# Altium footprint library Lattice Semiconductor Footprints.PcbLib: 129 footprints (part 4 of 10)
Each footprint in its own frame and in the unit in brackets; x right, y up, seen from the top. Pads: shape width x height; smd on the part's side, far side on the other; paste and mask are expansions set on the pad; w line width, h text height; cw(c..) or ccw(c..) is an arc to the next point about the centre after c.
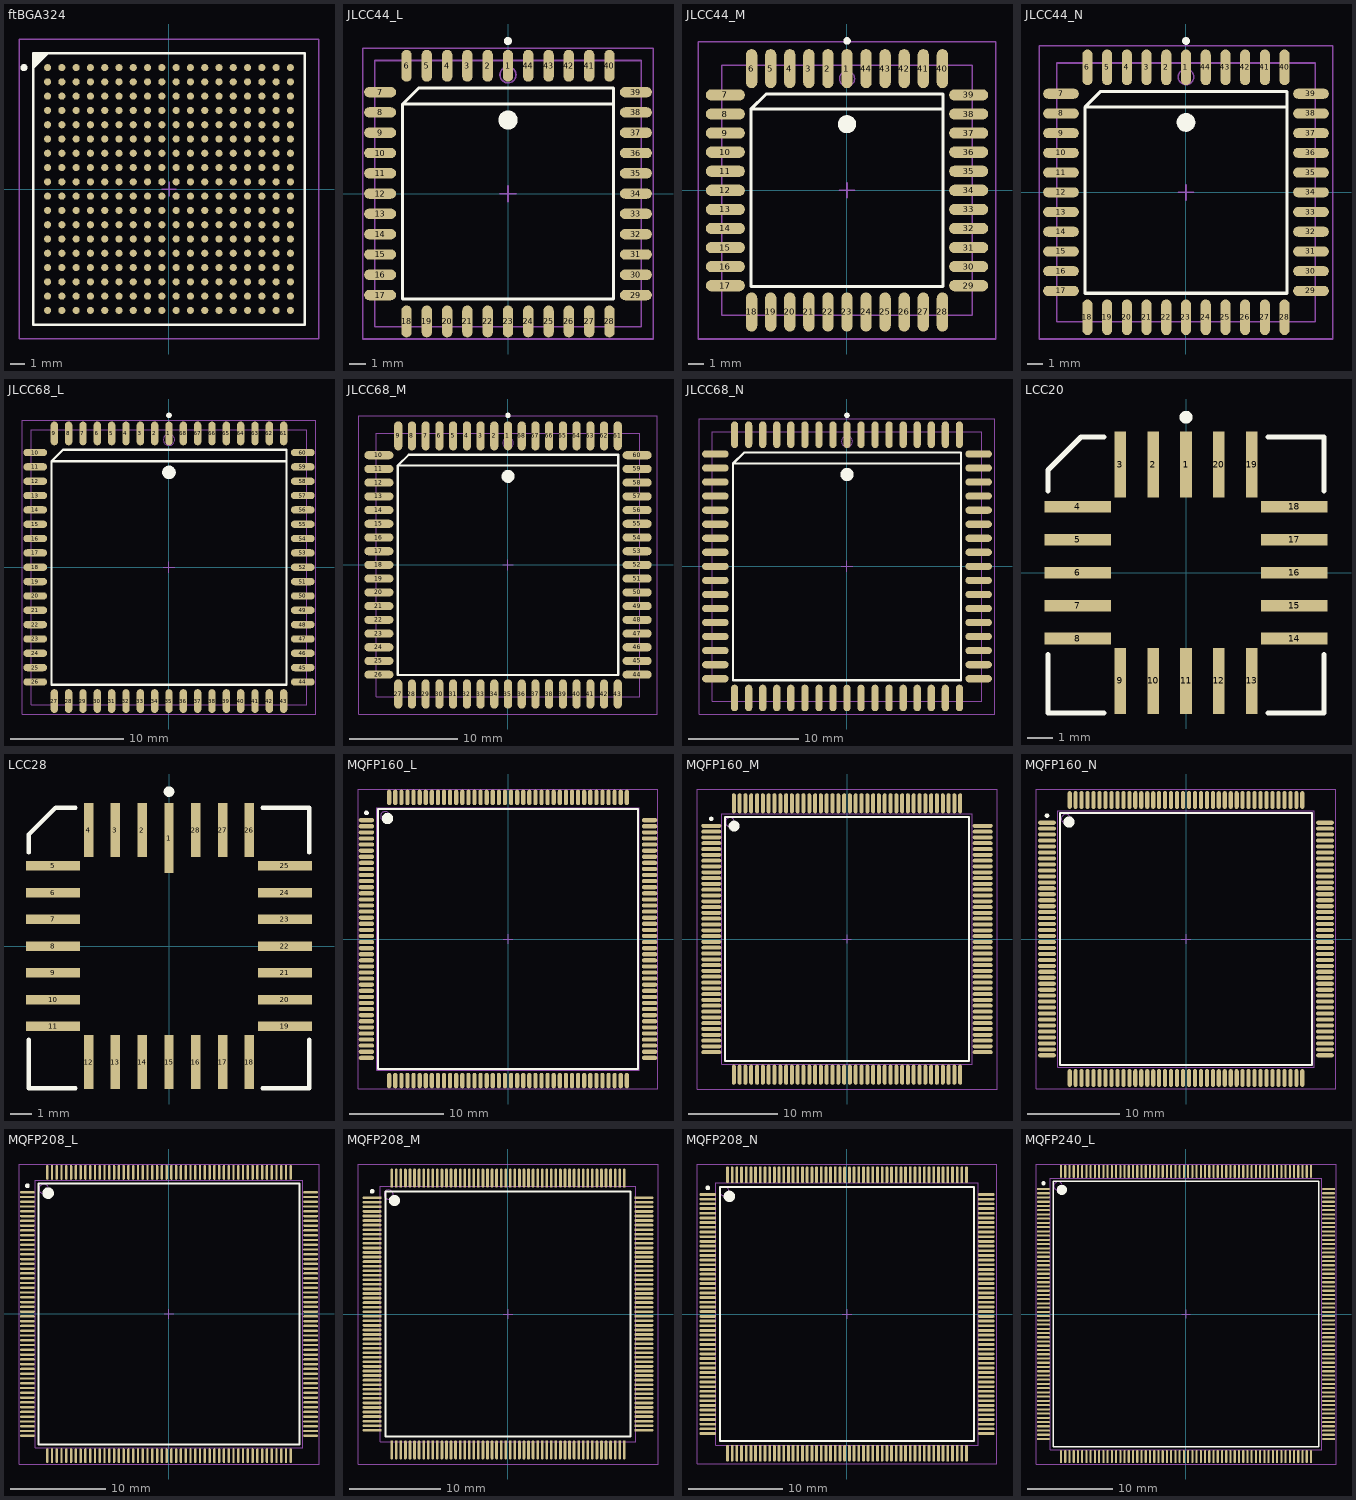
[diagram p3: the footprints below, top view; thin cyan lines are the x and y axes]

## ftBGA324 [mm] "324-Ball Fine Thin Ball Grid Array (ftBGA324)"
height 1.7
pads (324):
  round 0.5 smd: A1(-8.5,8.5) A2(-7.5,8.5) A3(-6.5,8.5) A4(-5.5,8.5) A5(-4.5,8.5) A6(-3.5,8.5) A7(-2.5,8.5) A8(-1.5,8.5) A9(-0.5,8.5) A10(0.5,8.5) A11(1.5,8.5) A12(2.5,8.5) A13(3.5,8.5) A14(4.5,8.5) A15(5.5,8.5) A16(6.5,8.5) A17(7.5,8.5) A18(8.5,8.5) B1(-8.5,7.5) B2(-7.5,7.5) B3(-6.5,7.5) B4(-5.5,7.5) B5(-4.5,7.5) B6(-3.5,7.5) B7(-2.5,7.5) B8(-1.5,7.5) B9(-0.5,7.5) B10(0.5,7.5) B11(1.5,7.5) B12(2.5,7.5) B13(3.5,7.5) B14(4.5,7.5) B15(5.5,7.5) B16(6.5,7.5) B17(7.5,7.5) B18(8.5,7.5) C1(-8.5,6.5) C2(-7.5,6.5) C3(-6.5,6.5) C4(-5.5,6.5) C5(-4.5,6.5) C6(-3.5,6.5) C7(-2.5,6.5) C8(-1.5,6.5) C9(-0.5,6.5) C10(0.5,6.5) C11(1.5,6.5) C12(2.5,6.5) C13(3.5,6.5) C14(4.5,6.5) C15(5.5,6.5) C16(6.5,6.5) C17(7.5,6.5) C18(8.5,6.5) D1(-8.5,5.5) D2(-7.5,5.5) D3(-6.5,5.5) D4(-5.5,5.5) D5(-4.5,5.5) D6(-3.5,5.5) D7(-2.5,5.5) D8(-1.5,5.5) D9(-0.5,5.5) D10(0.5,5.5) D11(1.5,5.5) D12(2.5,5.5) D13(3.5,5.5) D14(4.5,5.5) D15(5.5,5.5) D16(6.5,5.5) D17(7.5,5.5) D18(8.5,5.5) E1(-8.5,4.5) E2(-7.5,4.5) E3(-6.5,4.5) E4(-5.5,4.5) E5(-4.5,4.5) E6(-3.5,4.5) E7(-2.5,4.5) E8(-1.5,4.5) E9(-0.5,4.5) E10(0.5,4.5) E11(1.5,4.5) E12(2.5,4.5) E13(3.5,4.5) E14(4.5,4.5) E15(5.5,4.5) E16(6.5,4.5) E17(7.5,4.5) E18(8.5,4.5) F1(-8.5,3.5) F2(-7.5,3.5) F3(-6.5,3.5) F4(-5.5,3.5) F5(-4.5,3.5) F6(-3.5,3.5) F7(-2.5,3.5) F8(-1.5,3.5) F9(-0.5,3.5) F10(0.5,3.5) F11(1.5,3.5) F12(2.5,3.5) F13(3.5,3.5) F14(4.5,3.5) F15(5.5,3.5) F16(6.5,3.5) F17(7.5,3.5) F18(8.5,3.5) G1(-8.5,2.5) G2(-7.5,2.5) G3(-6.5,2.5) G4(-5.5,2.5) G5(-4.5,2.5) G6(-3.5,2.5) G7(-2.5,2.5) G8(-1.5,2.5) G9(-0.5,2.5) G10(0.5,2.5) G11(1.5,2.5) G12(2.5,2.5) G13(3.5,2.5) G14(4.5,2.5) G15(5.5,2.5) G16(6.5,2.5) G17(7.5,2.5) G18(8.5,2.5) H1(-8.5,1.5) H2(-7.5,1.5) H3(-6.5,1.5) H4(-5.5,1.5) H5(-4.5,1.5) H6(-3.5,1.5) H7(-2.5,1.5) H8(-1.5,1.5) H9(-0.5,1.5) H10(0.5,1.5) H11(1.5,1.5) H12(2.5,1.5) H13(3.5,1.5) H14(4.5,1.5) H15(5.5,1.5) H16(6.5,1.5) H17(7.5,1.5) H18(8.5,1.5) J1(-8.5,0.5) J2(-7.5,0.5) J3(-6.5,0.5) J4(-5.5,0.5) J5(-4.5,0.5) J6(-3.5,0.5) J7(-2.5,0.5) J8(-1.5,0.5) J9(-0.5,0.5) J10(0.5,0.5) J11(1.5,0.5) J12(2.5,0.5) J13(3.5,0.5) J14(4.5,0.5) J15(5.5,0.5) J16(6.5,0.5) J17(7.5,0.5) J18(8.5,0.5) K1(-8.5,-0.5) K2(-7.5,-0.5) K3(-6.5,-0.5) K4(-5.5,-0.5) K5(-4.5,-0.5) K6(-3.5,-0.5) K7(-2.5,-0.5) K8(-1.5,-0.5) K9(-0.5,-0.5) K10(0.5,-0.5) K11(1.5,-0.5) K12(2.5,-0.5) K13(3.5,-0.5) K14(4.5,-0.5) K15(5.5,-0.5) K16(6.5,-0.5) K17(7.5,-0.5) K18(8.5,-0.5) L1(-8.5,-1.5) L2(-7.5,-1.5) L3(-6.5,-1.5) L4(-5.5,-1.5) L5(-4.5,-1.5) L6(-3.5,-1.5) L7(-2.5,-1.5) L8(-1.5,-1.5) L9(-0.5,-1.5) L10(0.5,-1.5) L11(1.5,-1.5) L12(2.5,-1.5) L13(3.5,-1.5) L14(4.5,-1.5) L15(5.5,-1.5) L16(6.5,-1.5) L17(7.5,-1.5) L18(8.5,-1.5) M1(-8.5,-2.5) M2(-7.5,-2.5) M3(-6.5,-2.5) M4(-5.5,-2.5) M5(-4.5,-2.5) M6(-3.5,-2.5) M7(-2.5,-2.5) M8(-1.5,-2.5) M9(-0.5,-2.5) M10(0.5,-2.5) M11(1.5,-2.5) M12(2.5,-2.5) M13(3.5,-2.5) M14(4.5,-2.5) M15(5.5,-2.5) M16(6.5,-2.5) M17(7.5,-2.5) M18(8.5,-2.5) N1(-8.5,-3.5) N2(-7.5,-3.5) N3(-6.5,-3.5) N4(-5.5,-3.5) N5(-4.5,-3.5) N6(-3.5,-3.5) N7(-2.5,-3.5) N8(-1.5,-3.5) N9(-0.5,-3.5) N10(0.5,-3.5) N11(1.5,-3.5) N12(2.5,-3.5) N13(3.5,-3.5) N14(4.5,-3.5) N15(5.5,-3.5) N16(6.5,-3.5) N17(7.5,-3.5) N18(8.5,-3.5) P1(-8.5,-4.5) P2(-7.5,-4.5) P3(-6.5,-4.5) P4(-5.5,-4.5) P5(-4.5,-4.5) P6(-3.5,-4.5) P7(-2.5,-4.5) P8(-1.5,-4.5) P9(-0.5,-4.5) P10(0.5,-4.5) P11(1.5,-4.5) P12(2.5,-4.5) P13(3.5,-4.5) P14(4.5,-4.5) P15(5.5,-4.5) P16(6.5,-4.5) P17(7.5,-4.5) P18(8.5,-4.5) R1(-8.5,-5.5) R2(-7.5,-5.5) R3(-6.5,-5.5) R4(-5.5,-5.5) R5(-4.5,-5.5) R6(-3.5,-5.5) R7(-2.5,-5.5) R8(-1.5,-5.5) R9(-0.5,-5.5) R10(0.5,-5.5) R11(1.5,-5.5) R12(2.5,-5.5) R13(3.5,-5.5) R14(4.5,-5.5) R15(5.5,-5.5) R16(6.5,-5.5) R17(7.5,-5.5) R18(8.5,-5.5) T1(-8.5,-6.5) T2(-7.5,-6.5) T3(-6.5,-6.5) T4(-5.5,-6.5) T5(-4.5,-6.5) T6(-3.5,-6.5) T7(-2.5,-6.5) T8(-1.5,-6.5) T9(-0.5,-6.5) T10(0.5,-6.5) T11(1.5,-6.5) T12(2.5,-6.5) T13(3.5,-6.5) T14(4.5,-6.5) T15(5.5,-6.5) T16(6.5,-6.5) T17(7.5,-6.5) T18(8.5,-6.5) U1(-8.5,-7.5) U2(-7.5,-7.5) U3(-6.5,-7.5) U4(-5.5,-7.5) U5(-4.5,-7.5) U6(-3.5,-7.5) U7(-2.5,-7.5) U8(-1.5,-7.5) U9(-0.5,-7.5) U10(0.5,-7.5) U11(1.5,-7.5) U12(2.5,-7.5) U13(3.5,-7.5) U14(4.5,-7.5) U15(5.5,-7.5) U16(6.5,-7.5) U17(7.5,-7.5) U18(8.5,-7.5) V1(-8.5,-8.5) V2(-7.5,-8.5) V3(-6.5,-8.5) V4(-5.5,-8.5) V5(-4.5,-8.5) V6(-3.5,-8.5) V7(-2.5,-8.5) V8(-1.5,-8.5) V9(-0.5,-8.5) V10(0.5,-8.5) V11(1.5,-8.5) V12(2.5,-8.5) V13(3.5,-8.5) V14(4.5,-8.5) V15(5.5,-8.5) V16(6.5,-8.5) V17(7.5,-8.5) V18(8.5,-8.5)
Top Overlay:
  circle w0.25: c-10.15,8.5 r0.125
  region: -8.5,9.5 -9.5,8.5 -9.5,9.5
  lines w0.2: -9.5,8.5 -8.5,9.5 ; -9.5,-9.5 9.5,-9.5 9.5,9.5 -9.5,9.5 -9.5,-9.5
Mechanical 13:
  lines w0.1: -9.5,-9.5 9.5,-9.5 9.5,9.5 -9.5,9.5 -9.5,-9.5
Mechanical 15:
  lines w0.1: -0.5,0 0.5,0 ; 0,-0.5 0,0.5 ; -10.5,-10.5 10.5,-10.5 10.5,10.5 -10.5,10.5 -10.5,-10.5
3D body: height 1.7, standoff 0, extent -9.5,-9.5 9.5,9.5

## JLCC44_L [mm] "44-Pin Leaded Chip Carrier 1.27 mm Pitch, IPC High Density"
height 4.83
pads (44):
  oval 0.65x2 smd: 1(0,8) 2(-1.27,8) 3(-2.54,8) 4(-3.81,8) 5(-5.08,8) 6(-6.35,8) 18(-6.35,-8) 19(-5.08,-8) 20(-3.81,-8) 21(-2.54,-8) 22(-1.27,-8) 23(0,-8) 24(1.27,-8) 25(2.54,-8) 26(3.81,-8) 27(5.08,-8) 28(6.35,-8) 40(6.35,8) 41(5.08,8) 42(3.81,8) 43(2.54,8) 44(1.27,8)
  oval 2x0.65 smd: 7(-8,6.35) 8(-8,5.08) 9(-8,3.81) 10(-8,2.54) 11(-8,1.27) 12(-8,0) 13(-8,-1.27) 14(-8,-2.54) 15(-8,-3.81) 16(-8,-5.08) 17(-8,-6.35) 29(8,-6.35) 30(8,-5.08) 31(8,-3.81) 32(8,-2.54) 33(8,-1.27) 34(8,0) 35(8,1.27) 36(8,2.54) 37(8,3.81) 38(8,5.08) 39(8,6.35)
Top Overlay:
  circle w0.25: c0,9.55 r0.125
  circle w0.6: c0,4.6 r0.3
  lines w0.2: 6.6,5.6 -6.6,5.6 ; -6.6,5.6 -5.6,6.6 6.6,6.6 6.6,-6.6 -6.6,-6.6 -6.6,5.6
Mechanical 13:
  circle w0.1: c0,7.43 r0.5
  lines w0.1: -8.33,-8.33 -8.33,8.33 8.33,8.33 8.33,-8.33 -8.33,-8.33
Mechanical 15:
  lines w0.1: -0.5,0 0.5,0 ; 0,-0.5 0,0.5 ; -9.1,-9.1 -9.1,9.1 9.1,9.1 9.1,-9.1 -9.1,-9.1
3D body: height 4.83, standoff 0, extent -8.33,-8.33 8.33,8.33

## JLCC44_M [mm] "44-Pin Leaded Chip Carrier 1.27 mm Pitch, IPC Low Density"
height 4.83
pads (44):
  oval 0.75x2.6 smd: 1(0,8.1) 2(-1.27,8.1) 3(-2.54,8.1) 4(-3.81,8.1) 5(-5.08,8.1) 6(-6.35,8.1) 18(-6.35,-8.1) 19(-5.08,-8.1) 20(-3.81,-8.1) 21(-2.54,-8.1) 22(-1.27,-8.1) 23(0,-8.1) 24(1.27,-8.1) 25(2.54,-8.1) 26(3.81,-8.1) 27(5.08,-8.1) 28(6.35,-8.1) 40(6.35,8.1) 41(5.08,8.1) 42(3.81,8.1) 43(2.54,8.1) 44(1.27,8.1)
  oval 2.6x0.75 smd: 7(-8.1,6.35) 8(-8.1,5.08) 9(-8.1,3.81) 10(-8.1,2.54) 11(-8.1,1.27) 12(-8.1,0) 13(-8.1,-1.27) 14(-8.1,-2.54) 15(-8.1,-3.81) 16(-8.1,-5.08) 17(-8.1,-6.35) 29(8.1,-6.35) 30(8.1,-5.08) 31(8.1,-3.81) 32(8.1,-2.54) 33(8.1,-1.27) 34(8.1,0) 35(8.1,1.27) 36(8.1,2.54) 37(8.1,3.81) 38(8.1,5.08) 39(8.1,6.35)
Top Overlay:
  circle w0.25: c0,9.95 r0.125
  circle w0.6: c0,4.4 r0.3
  lines w0.2: 6.4,5.4 -6.4,5.4 ; -6.4,5.4 -5.4,6.4 6.4,6.4 6.4,-6.4 -6.4,-6.4 -6.4,5.4
Mechanical 13:
  circle w0.1: c0,7.43 r0.5
  lines w0.1: -8.33,-8.33 -8.33,8.33 8.33,8.33 8.33,-8.33 -8.33,-8.33
Mechanical 15:
  lines w0.1: -0.5,0 0.5,0 ; 0,-0.5 0,0.5 ; -9.9,-9.9 -9.9,9.9 9.9,9.9 9.9,-9.9 -9.9,-9.9
3D body: height 4.83, standoff 0, extent -8.33,-8.33 8.33,8.33

## JLCC44_N [mm] "44-Pin Leaded Chip Carrier 1.27 mm Pitch, IPC Medium Density"
height 4.83
pads (44):
  oval 0.65x2.3 smd: 1(0,8.05) 2(-1.27,8.05) 3(-2.54,8.05) 4(-3.81,8.05) 5(-5.08,8.05) 6(-6.35,8.05) 18(-6.35,-8.05) 19(-5.08,-8.05) 20(-3.81,-8.05) 21(-2.54,-8.05) 22(-1.27,-8.05) 23(0,-8.05) 24(1.27,-8.05) 25(2.54,-8.05) 26(3.81,-8.05) 27(5.08,-8.05) 28(6.35,-8.05) 40(6.35,8.05) 41(5.08,8.05) 42(3.81,8.05) 43(2.54,8.05) 44(1.27,8.05)
  oval 2.3x0.65 smd: 7(-8.05,6.35) 8(-8.05,5.08) 9(-8.05,3.81) 10(-8.05,2.54) 11(-8.05,1.27) 12(-8.05,0) 13(-8.05,-1.27) 14(-8.05,-2.54) 15(-8.05,-3.81) 16(-8.05,-5.08) 17(-8.05,-6.35) 29(8.05,-6.35) 30(8.05,-5.08) 31(8.05,-3.81) 32(8.05,-2.54) 33(8.05,-1.27) 34(8.05,0) 35(8.05,1.27) 36(8.05,2.54) 37(8.05,3.81) 38(8.05,5.08) 39(8.05,6.35)
Top Overlay:
  circle w0.25: c0,9.75 r0.125
  circle w0.6: c0,4.5 r0.3
  lines w0.2: 6.5,5.5 -6.5,5.5 ; -6.5,5.5 -5.5,6.5 6.5,6.5 6.5,-6.5 -6.5,-6.5 -6.5,5.5
Mechanical 13:
  circle w0.1: c0,7.43 r0.5
  lines w0.1: -8.33,-8.33 -8.33,8.33 8.33,8.33 8.33,-8.33 -8.33,-8.33
Mechanical 15:
  lines w0.1: -0.5,0 0.5,0 ; 0,-0.5 0,0.5 ; -9.45,-9.45 -9.45,9.45 9.45,9.45 9.45,-9.45 -9.45,-9.45
3D body: height 4.83, standoff 0, extent -8.33,-8.33 8.33,8.33

## JLCC68_L [mm] "68-Pin Leaded Chip Carrier 1.27 mm Pitch, IPC High Density"
height 4.83
pads (68):
  oval 0.65x2.1 smd: 1(0,11.85) 2(-1.27,11.85) 3(-2.54,11.85) 4(-3.81,11.85) 5(-5.08,11.85) 6(-6.35,11.85) 7(-7.62,11.85) 8(-8.89,11.85) 9(-10.16,11.85) 27(-10.16,-11.85) 28(-8.89,-11.85) 29(-7.62,-11.85) 30(-6.35,-11.85) 31(-5.08,-11.85) 32(-3.81,-11.85) 33(-2.54,-11.85) 34(-1.27,-11.85) 35(0,-11.85) 36(1.27,-11.85) 37(2.54,-11.85) 38(3.81,-11.85) 39(5.08,-11.85) 40(6.35,-11.85) 41(7.62,-11.85) 42(8.89,-11.85) 43(10.16,-11.85) 61(10.16,11.85) 62(8.89,11.85) 63(7.62,11.85) 64(6.35,11.85) 65(5.08,11.85) 66(3.81,11.85) 67(2.54,11.85) 68(1.27,11.85)
  oval 2.1x0.65 smd: 10(-11.85,10.16) 11(-11.85,8.89) 12(-11.85,7.62) 13(-11.85,6.35) 14(-11.85,5.08) 15(-11.85,3.81) 16(-11.85,2.54) 17(-11.85,1.27) 18(-11.85,0) 19(-11.85,-1.27) 20(-11.85,-2.54) 21(-11.85,-3.81) 22(-11.85,-5.08) 23(-11.85,-6.35) 24(-11.85,-7.62) 25(-11.85,-8.89) 26(-11.85,-10.16) 44(11.85,-10.16) 45(11.85,-8.89) 46(11.85,-7.62) 47(11.85,-6.35) 48(11.85,-5.08) 49(11.85,-3.81) 50(11.85,-2.54) 51(11.85,-1.27) 52(11.85,0) 53(11.85,1.27) 54(11.85,2.54) 55(11.85,3.81) 56(11.85,5.08) 57(11.85,6.35) 58(11.85,7.62) 59(11.85,8.89) 60(11.85,10.16)
Top Overlay:
  circle w0.25: c0,13.45 r0.125
  circle w0.6: c0,8.4 r0.3
  lines w0.2: 10.4,9.4 -10.4,9.4 ; -10.4,9.4 -9.4,10.4 10.4,10.4 10.4,-10.4 -10.4,-10.4 -10.4,9.4
Mechanical 13:
  circle w0.1: c0,11.29 r0.5
  lines w0.1: -12.19,-12.19 -12.19,12.19 12.19,12.19 12.19,-12.19 -12.19,-12.19
Mechanical 15:
  lines w0.1: -0.5,0 0.5,0 ; 0,-0.5 0,0.5 ; -13,-13 -13,13 13,13 13,-13 -13,-13
3D body: height 4.83, standoff 0, extent -12.19,-12.19 12.19,12.19

## JLCC68_M [mm] "68-Pin Leaded Chip Carrier 1.27 mm Pitch, IPC Low Density"
height 4.83
pads (68):
  oval 0.75x2.7 smd: 1(0,11.95) 2(-1.27,11.95) 3(-2.54,11.95) 4(-3.81,11.95) 5(-5.08,11.95) 6(-6.35,11.95) 7(-7.62,11.95) 8(-8.89,11.95) 9(-10.16,11.95) 27(-10.16,-11.95) 28(-8.89,-11.95) 29(-7.62,-11.95) 30(-6.35,-11.95) 31(-5.08,-11.95) 32(-3.81,-11.95) 33(-2.54,-11.95) 34(-1.27,-11.95) 35(0,-11.95) 36(1.27,-11.95) 37(2.54,-11.95) 38(3.81,-11.95) 39(5.08,-11.95) 40(6.35,-11.95) 41(7.62,-11.95) 42(8.89,-11.95) 43(10.16,-11.95) 61(10.16,11.95) 62(8.89,11.95) 63(7.62,11.95) 64(6.35,11.95) 65(5.08,11.95) 66(3.81,11.95) 67(2.54,11.95) 68(1.27,11.95)
  oval 2.7x0.75 smd: 10(-11.95,10.16) 11(-11.95,8.89) 12(-11.95,7.62) 13(-11.95,6.35) 14(-11.95,5.08) 15(-11.95,3.81) 16(-11.95,2.54) 17(-11.95,1.27) 18(-11.95,0) 19(-11.95,-1.27) 20(-11.95,-2.54) 21(-11.95,-3.81) 22(-11.95,-5.08) 23(-11.95,-6.35) 24(-11.95,-7.62) 25(-11.95,-8.89) 26(-11.95,-10.16) 44(11.95,-10.16) 45(11.95,-8.89) 46(11.95,-7.62) 47(11.95,-6.35) 48(11.95,-5.08) 49(11.95,-3.81) 50(11.95,-2.54) 51(11.95,-1.27) 52(11.95,0) 53(11.95,1.27) 54(11.95,2.54) 55(11.95,3.81) 56(11.95,5.08) 57(11.95,6.35) 58(11.95,7.62) 59(11.95,8.89) 60(11.95,10.16)
Top Overlay:
  circle w0.25: c0,13.85 r0.125
  circle w0.6: c0,8.2 r0.3
  lines w0.2: 10.2,9.2 -10.2,9.2 ; -10.2,9.2 -9.2,10.2 10.2,10.2 10.2,-10.2 -10.2,-10.2 -10.2,9.2
Mechanical 13:
  circle w0.1: c0,11.29 r0.5
  lines w0.1: -12.19,-12.19 -12.19,12.19 12.19,12.19 12.19,-12.19 -12.19,-12.19
Mechanical 15:
  lines w0.1: -0.5,0 0.5,0 ; 0,-0.5 0,0.5 ; -13.8,-13.8 -13.8,13.8 13.8,13.8 13.8,-13.8 -13.8,-13.8
3D body: height 4.83, standoff 0, extent -12.19,-12.19 12.19,12.19

## JLCC68_N [mm] "68-Pin Leaded Chip Carrier 1.27 mm Pitch, IPC Medium Density"
height 4.83
pads (68):
  oval 0.65x2.4 smd: 1(0,11.9) 2(-1.27,11.9) 3(-2.54,11.9) 4(-3.81,11.9) 5(-5.08,11.9) 6(-6.35,11.9) 7(-7.62,11.9) 8(-8.89,11.9) 9(-10.16,11.9) 27(-10.16,-11.9) 28(-8.89,-11.9) 29(-7.62,-11.9) 30(-6.35,-11.9) 31(-5.08,-11.9) 32(-3.81,-11.9) 33(-2.54,-11.9) 34(-1.27,-11.9) 35(0,-11.9) 36(1.27,-11.9) 37(2.54,-11.9) 38(3.81,-11.9) 39(5.08,-11.9) 40(6.35,-11.9) 41(7.62,-11.9) 42(8.89,-11.9) 43(10.16,-11.9) 61(10.16,11.9) 62(8.89,11.9) 63(7.62,11.9) 64(6.35,11.9) 65(5.08,11.9) 66(3.81,11.9) 67(2.54,11.9) 68(1.27,11.9)
  oval 2.4x0.65 smd: 10(-11.9,10.16) 11(-11.9,8.89) 12(-11.9,7.62) 13(-11.9,6.35) 14(-11.9,5.08) 15(-11.9,3.81) 16(-11.9,2.54) 17(-11.9,1.27) 18(-11.9,0) 19(-11.9,-1.27) 20(-11.9,-2.54) 21(-11.9,-3.81) 22(-11.9,-5.08) 23(-11.9,-6.35) 24(-11.9,-7.62) 25(-11.9,-8.89) 26(-11.9,-10.16) 44(11.9,-10.16) 45(11.9,-8.89) 46(11.9,-7.62) 47(11.9,-6.35) 48(11.9,-5.08) 49(11.9,-3.81) 50(11.9,-2.54) 51(11.9,-1.27) 52(11.9,0) 53(11.9,1.27) 54(11.9,2.54) 55(11.9,3.81) 56(11.9,5.08) 57(11.9,6.35) 58(11.9,7.62) 59(11.9,8.89) 60(11.9,10.16)
Top Overlay:
  circle w0.25: c0,13.65 r0.125
  circle w0.6: c0,8.3 r0.3
  lines w0.2: 10.3,9.3 -10.3,9.3 ; -10.3,9.3 -9.3,10.3 10.3,10.3 10.3,-10.3 -10.3,-10.3 -10.3,9.3
Mechanical 13:
  circle w0.1: c0,11.29 r0.5
  lines w0.1: -12.19,-12.19 -12.19,12.19 12.19,12.19 12.19,-12.19 -12.19,-12.19
Mechanical 15:
  lines w0.1: -0.5,0 0.5,0 ; 0,-0.5 0,0.5 ; -13.35,-13.35 -13.35,13.35 13.35,13.35 13.35,-13.35 -13.35,-13.35
3D body: height 4.83, standoff 0, extent -12.19,-12.19 12.19,12.19

## LCC20 [mm] "Leadless Chip Carrier; 20 Terminals; Body 8.9 x 8.9 mm"
height 2.27
pads (20):
  rect 0.45x2.55 smd: 1(0,4.175) 2(-1.27,4.175) 3(-2.54,4.175) 9(-2.54,-4.175) 10(-1.27,-4.175) 11(0,-4.175) 12(1.27,-4.175) 13(2.54,-4.175) 19(2.54,4.175) 20(1.27,4.175)
  rect 2.55x0.45 smd: 4(-4.175,2.54) 5(-4.175,1.27) 6(-4.175,0) 7(-4.175,-1.27) 8(-4.175,-2.54) 14(4.175,-2.54) 15(4.175,-1.27) 16(4.175,0) 17(4.175,1.27) 18(4.175,2.54)
Top Overlay:
  circle w0.25: c0,6 r0.125
  lines w0.2: -5.325,-3.165 -5.325,-5.413 -3.165,-5.413 ; -5.325,3.165 -5.325,3.962 -4.05,5.238 -3.165,5.238 ; 3.165,-5.413 5.325,-5.413 5.325,-3.165 ; 3.165,5.238 5.325,5.238 5.325,3.165

## LCC28 [mm] "Leadless Chip Carrier; 28 Terminals; Body 11.5 x 11.5 mm"
height 2.27
pads (28):
  rect 0.45x3.3 smd: 1(0,5.125)
  rect 0.45x2.55 smd: 2(-1.27,5.5) 3(-2.54,5.5) 4(-3.81,5.5) 12(-3.81,-5.5) 13(-2.54,-5.5) 14(-1.27,-5.5) 15(0,-5.5) 16(1.27,-5.5) 17(2.54,-5.5) 18(3.81,-5.5) 26(3.81,5.5) 27(2.54,5.5) 28(1.27,5.5)
  rect 2.55x0.45 smd: 5(-5.5,3.81) 6(-5.5,2.54) 7(-5.5,1.27) 8(-5.5,0) 9(-5.5,-1.27) 10(-5.5,-2.54) 11(-5.5,-3.81) 19(5.5,-3.81) 20(5.5,-2.54) 21(5.5,-1.27) 22(5.5,0) 23(5.5,1.27) 24(5.5,2.54) 25(5.5,3.81)
Top Overlay:
  circle w0.25: c0,7.325 r0.125
  lines w0.2: -6.65,-4.435 -6.65,-6.737 -4.435,-6.737 ; -6.65,4.435 -6.65,5.288 -5.375,6.563 -4.435,6.562 ; 4.435,-6.737 6.65,-6.737 6.65,-4.435 ; 4.435,6.562 6.65,6.562 6.65,4.435

## MQFP160_L [mm] "160-Pin Quad Flat Pack 0.65 mm Pitch, IPC High Density"
height 3.9
pads (160):
  oval 1.65x0.45 smd: 1(-15.1,12.675) 2(-15.1,12.025) 3(-15.1,11.375) 4(-15.1,10.725) 5(-15.1,10.075) 6(-15.1,9.425) 7(-15.1,8.775) 8(-15.1,8.125) 9(-15.1,7.475) 10(-15.1,6.825) 11(-15.1,6.175) 12(-15.1,5.525) 13(-15.1,4.875) 14(-15.1,4.225) 15(-15.1,3.575) 16(-15.1,2.925) 17(-15.1,2.275) 18(-15.1,1.625) 19(-15.1,0.975) 20(-15.1,0.325) 21(-15.1,-0.325) 22(-15.1,-0.975) 23(-15.1,-1.625) 24(-15.1,-2.275) 25(-15.1,-2.925) 26(-15.1,-3.575) 27(-15.1,-4.225) 28(-15.1,-4.875) 29(-15.1,-5.525) 30(-15.1,-6.175) 31(-15.1,-6.825) 32(-15.1,-7.475) 33(-15.1,-8.125) 34(-15.1,-8.775) 35(-15.1,-9.425) 36(-15.1,-10.075) 37(-15.1,-10.725) 38(-15.1,-11.375) 39(-15.1,-12.025) 40(-15.1,-12.675) 81(15.1,-12.675) 82(15.1,-12.025) 83(15.1,-11.375) 84(15.1,-10.725) 85(15.1,-10.075) 86(15.1,-9.425) 87(15.1,-8.775) 88(15.1,-8.125) 89(15.1,-7.475) 90(15.1,-6.825) 91(15.1,-6.175) 92(15.1,-5.525) 93(15.1,-4.875) 94(15.1,-4.225) 95(15.1,-3.575) 96(15.1,-2.925) 97(15.1,-2.275) 98(15.1,-1.625) 99(15.1,-0.975) 100(15.1,-0.325) 101(15.1,0.325) 102(15.1,0.975) 103(15.1,1.625) 104(15.1,2.275) 105(15.1,2.925) 106(15.1,3.575) 107(15.1,4.225) 108(15.1,4.875) 109(15.1,5.525) 110(15.1,6.175) 111(15.1,6.825) 112(15.1,7.475) 113(15.1,8.125) 114(15.1,8.775) 115(15.1,9.425) 116(15.1,10.075) 117(15.1,10.725) 118(15.1,11.375) 119(15.1,12.025) 120(15.1,12.675)
  oval 0.45x1.65 smd: 41(-12.675,-15.1) 42(-12.025,-15.1) 43(-11.375,-15.1) 44(-10.725,-15.1) 45(-10.075,-15.1) 46(-9.425,-15.1) 47(-8.775,-15.1) 48(-8.125,-15.1) 49(-7.475,-15.1) 50(-6.825,-15.1) 51(-6.175,-15.1) 52(-5.525,-15.1) 53(-4.875,-15.1) 54(-4.225,-15.1) 55(-3.575,-15.1) 56(-2.925,-15.1) 57(-2.275,-15.1) 58(-1.625,-15.1) 59(-0.975,-15.1) 60(-0.325,-15.1) 61(0.325,-15.1) 62(0.975,-15.1) 63(1.625,-15.1) 64(2.275,-15.1) 65(2.925,-15.1) 66(3.575,-15.1) 67(4.225,-15.1) 68(4.875,-15.1) 69(5.525,-15.1) 70(6.175,-15.1) 71(6.825,-15.1) 72(7.475,-15.1) 73(8.125,-15.1) 74(8.775,-15.1) 75(9.425,-15.1) 76(10.075,-15.1) 77(10.725,-15.1) 78(11.375,-15.1) 79(12.025,-15.1) 80(12.675,-15.1) 121(12.675,15.1) 122(12.025,15.1) 123(11.375,15.1) 124(10.725,15.1) 125(10.075,15.1) 126(9.425,15.1) 127(8.775,15.1) 128(8.125,15.1) 129(7.475,15.1) 130(6.825,15.1) 131(6.175,15.1) 132(5.525,15.1) 133(4.875,15.1) 134(4.225,15.1) 135(3.575,15.1) 136(2.925,15.1) 137(2.275,15.1) 138(1.625,15.1) 139(0.975,15.1) 140(0.325,15.1) 141(-0.325,15.1) 142(-0.975,15.1) 143(-1.625,15.1) 144(-2.275,15.1) 145(-2.925,15.1) 146(-3.575,15.1) 147(-4.225,15.1) 148(-4.875,15.1) 149(-5.525,15.1) 150(-6.175,15.1) 151(-6.825,15.1) 152(-7.475,15.1) 153(-8.125,15.1) 154(-8.775,15.1) 155(-9.425,15.1) 156(-10.075,15.1) 157(-10.725,15.1) 158(-11.375,15.1) 159(-12.025,15.1) 160(-12.675,15.1)
Top Overlay:
  circle w0.6: c-12.85,12.85 r0.3
  circle w0.25: c-15.1,13.45 r0.125
  lines w0.2: -13.85,-13.85 13.85,-13.85 13.85,13.85 -13.85,13.85 -13.85,-13.85
Mechanical 13:
  circle w0.1: c-13.1,13.1 r0.5
  lines w0.1: -14,-14 14,-14 14,14 -14,14 -14,-14
Mechanical 15:
  lines w0.1: -0.5,0 0.5,0 ; 0,-0.5 0,0.5 ; -16,-16 16,-16 16,16 -16,16 -16,-16
3D body: height 3.9, standoff 0, extent -14,-14 14,14

## MQFP160_M [mm] "160-Pin Quad Flat Pack 0.65 mm Pitch, IPC Low Density"
height 3.9
pads (160):
  oval 2.25x0.45 smd: 1(-15.2,12.675) 2(-15.2,12.025) 3(-15.2,11.375) 4(-15.2,10.725) 5(-15.2,10.075) 6(-15.2,9.425) 7(-15.2,8.775) 8(-15.2,8.125) 9(-15.2,7.475) 10(-15.2,6.825) 11(-15.2,6.175) 12(-15.2,5.525) 13(-15.2,4.875) 14(-15.2,4.225) 15(-15.2,3.575) 16(-15.2,2.925) 17(-15.2,2.275) 18(-15.2,1.625) 19(-15.2,0.975) 20(-15.2,0.325) 21(-15.2,-0.325) 22(-15.2,-0.975) 23(-15.2,-1.625) 24(-15.2,-2.275) 25(-15.2,-2.925) 26(-15.2,-3.575) 27(-15.2,-4.225) 28(-15.2,-4.875) 29(-15.2,-5.525) 30(-15.2,-6.175) 31(-15.2,-6.825) 32(-15.2,-7.475) 33(-15.2,-8.125) 34(-15.2,-8.775) 35(-15.2,-9.425) 36(-15.2,-10.075) 37(-15.2,-10.725) 38(-15.2,-11.375) 39(-15.2,-12.025) 40(-15.2,-12.675) 81(15.2,-12.675) 82(15.2,-12.025) 83(15.2,-11.375) 84(15.2,-10.725) 85(15.2,-10.075) 86(15.2,-9.425) 87(15.2,-8.775) 88(15.2,-8.125) 89(15.2,-7.475) 90(15.2,-6.825) 91(15.2,-6.175) 92(15.2,-5.525) 93(15.2,-4.875) 94(15.2,-4.225) 95(15.2,-3.575) 96(15.2,-2.925) 97(15.2,-2.275) 98(15.2,-1.625) 99(15.2,-0.975) 100(15.2,-0.325) 101(15.2,0.325) 102(15.2,0.975) 103(15.2,1.625) 104(15.2,2.275) 105(15.2,2.925) 106(15.2,3.575) 107(15.2,4.225) 108(15.2,4.875) 109(15.2,5.525) 110(15.2,6.175) 111(15.2,6.825) 112(15.2,7.475) 113(15.2,8.125) 114(15.2,8.775) 115(15.2,9.425) 116(15.2,10.075) 117(15.2,10.725) 118(15.2,11.375) 119(15.2,12.025) 120(15.2,12.675)
  oval 0.45x2.25 smd: 41(-12.675,-15.2) 42(-12.025,-15.2) 43(-11.375,-15.2) 44(-10.725,-15.2) 45(-10.075,-15.2) 46(-9.425,-15.2) 47(-8.775,-15.2) 48(-8.125,-15.2) 49(-7.475,-15.2) 50(-6.825,-15.2) 51(-6.175,-15.2) 52(-5.525,-15.2) 53(-4.875,-15.2) 54(-4.225,-15.2) 55(-3.575,-15.2) 56(-2.925,-15.2) 57(-2.275,-15.2) 58(-1.625,-15.2) 59(-0.975,-15.2) 60(-0.325,-15.2) 61(0.325,-15.2) 62(0.975,-15.2) 63(1.625,-15.2) 64(2.275,-15.2) 65(2.925,-15.2) 66(3.575,-15.2) 67(4.225,-15.2) 68(4.875,-15.2) 69(5.525,-15.2) 70(6.175,-15.2) 71(6.825,-15.2) 72(7.475,-15.2) 73(8.125,-15.2) 74(8.775,-15.2) 75(9.425,-15.2) 76(10.075,-15.2) 77(10.725,-15.2) 78(11.375,-15.2) 79(12.025,-15.2) 80(12.675,-15.2) 121(12.675,15.2) 122(12.025,15.2) 123(11.375,15.2) 124(10.725,15.2) 125(10.075,15.2) 126(9.425,15.2) 127(8.775,15.2) 128(8.125,15.2) 129(7.475,15.2) 130(6.825,15.2) 131(6.175,15.2) 132(5.525,15.2) 133(4.875,15.2) 134(4.225,15.2) 135(3.575,15.2) 136(2.925,15.2) 137(2.275,15.2) 138(1.625,15.2) 139(0.975,15.2) 140(0.325,15.2) 141(-0.325,15.2) 142(-0.975,15.2) 143(-1.625,15.2) 144(-2.275,15.2) 145(-2.925,15.2) 146(-3.575,15.2) 147(-4.225,15.2) 148(-4.875,15.2) 149(-5.525,15.2) 150(-6.175,15.2) 151(-6.825,15.2) 152(-7.475,15.2) 153(-8.125,15.2) 154(-8.775,15.2) 155(-9.425,15.2) 156(-10.075,15.2) 157(-10.725,15.2) 158(-11.375,15.2) 159(-12.025,15.2) 160(-12.675,15.2)
Top Overlay:
  circle w0.6: c-12.65,12.65 r0.3
  circle w0.25: c-15.2,13.45 r0.125
  lines w0.2: -13.65,-13.65 13.65,-13.65 13.65,13.65 -13.65,13.65 -13.65,-13.65
Mechanical 13:
  circle w0.1: c-13.1,13.1 r0.5
  lines w0.1: -14,-14 14,-14 14,14 -14,14 -14,-14
Mechanical 15:
  lines w0.1: -0.5,0 0.5,0 ; 0,-0.5 0,0.5 ; -16.8,-16.8 16.8,-16.8 16.8,16.8 -16.8,16.8 -16.8,-16.8
3D body: height 3.9, standoff 0, extent -14,-14 14,14

## MQFP160_N [mm] "160-Pin Quad Flat Pack 0.65 mm Pitch, IPC Medium Density"
height 3.9
pads (160):
  oval 1.95x0.45 smd: 1(-15.15,12.675) 2(-15.15,12.025) 3(-15.15,11.375) 4(-15.15,10.725) 5(-15.15,10.075) 6(-15.15,9.425) 7(-15.15,8.775) 8(-15.15,8.125) 9(-15.15,7.475) 10(-15.15,6.825) 11(-15.15,6.175) 12(-15.15,5.525) 13(-15.15,4.875) 14(-15.15,4.225) 15(-15.15,3.575) 16(-15.15,2.925) 17(-15.15,2.275) 18(-15.15,1.625) 19(-15.15,0.975) 20(-15.15,0.325) 21(-15.15,-0.325) 22(-15.15,-0.975) 23(-15.15,-1.625) 24(-15.15,-2.275) 25(-15.15,-2.925) 26(-15.15,-3.575) 27(-15.15,-4.225) 28(-15.15,-4.875) 29(-15.15,-5.525) 30(-15.15,-6.175) 31(-15.15,-6.825) 32(-15.15,-7.475) 33(-15.15,-8.125) 34(-15.15,-8.775) 35(-15.15,-9.425) 36(-15.15,-10.075) 37(-15.15,-10.725) 38(-15.15,-11.375) 39(-15.15,-12.025) 40(-15.15,-12.675) 81(15.15,-12.675) 82(15.15,-12.025) 83(15.15,-11.375) 84(15.15,-10.725) 85(15.15,-10.075) 86(15.15,-9.425) 87(15.15,-8.775) 88(15.15,-8.125) 89(15.15,-7.475) 90(15.15,-6.825) 91(15.15,-6.175) 92(15.15,-5.525) 93(15.15,-4.875) 94(15.15,-4.225) 95(15.15,-3.575) 96(15.15,-2.925) 97(15.15,-2.275) 98(15.15,-1.625) 99(15.15,-0.975) 100(15.15,-0.325) 101(15.15,0.325) 102(15.15,0.975) 103(15.15,1.625) 104(15.15,2.275) 105(15.15,2.925) 106(15.15,3.575) 107(15.15,4.225) 108(15.15,4.875) 109(15.15,5.525) 110(15.15,6.175) 111(15.15,6.825) 112(15.15,7.475) 113(15.15,8.125) 114(15.15,8.775) 115(15.15,9.425) 116(15.15,10.075) 117(15.15,10.725) 118(15.15,11.375) 119(15.15,12.025) 120(15.15,12.675)
  oval 0.45x1.95 smd: 41(-12.675,-15.15) 42(-12.025,-15.15) 43(-11.375,-15.15) 44(-10.725,-15.15) 45(-10.075,-15.15) 46(-9.425,-15.15) 47(-8.775,-15.15) 48(-8.125,-15.15) 49(-7.475,-15.15) 50(-6.825,-15.15) 51(-6.175,-15.15) 52(-5.525,-15.15) 53(-4.875,-15.15) 54(-4.225,-15.15) 55(-3.575,-15.15) 56(-2.925,-15.15) 57(-2.275,-15.15) 58(-1.625,-15.15) 59(-0.975,-15.15) 60(-0.325,-15.15) 61(0.325,-15.15) 62(0.975,-15.15) 63(1.625,-15.15) 64(2.275,-15.15) 65(2.925,-15.15) 66(3.575,-15.15) 67(4.225,-15.15) 68(4.875,-15.15) 69(5.525,-15.15) 70(6.175,-15.15) 71(6.825,-15.15) 72(7.475,-15.15) 73(8.125,-15.15) 74(8.775,-15.15) 75(9.425,-15.15) 76(10.075,-15.15) 77(10.725,-15.15) 78(11.375,-15.15) 79(12.025,-15.15) 80(12.675,-15.15) 121(12.675,15.15) 122(12.025,15.15) 123(11.375,15.15) 124(10.725,15.15) 125(10.075,15.15) 126(9.425,15.15) 127(8.775,15.15) 128(8.125,15.15) 129(7.475,15.15) 130(6.825,15.15) 131(6.175,15.15) 132(5.525,15.15) 133(4.875,15.15) 134(4.225,15.15) 135(3.575,15.15) 136(2.925,15.15) 137(2.275,15.15) 138(1.625,15.15) 139(0.975,15.15) 140(0.325,15.15) 141(-0.325,15.15) 142(-0.975,15.15) 143(-1.625,15.15) 144(-2.275,15.15) 145(-2.925,15.15) 146(-3.575,15.15) 147(-4.225,15.15) 148(-4.875,15.15) 149(-5.525,15.15) 150(-6.175,15.15) 151(-6.825,15.15) 152(-7.475,15.15) 153(-8.125,15.15) 154(-8.775,15.15) 155(-9.425,15.15) 156(-10.075,15.15) 157(-10.725,15.15) 158(-11.375,15.15) 159(-12.025,15.15) 160(-12.675,15.15)
Top Overlay:
  circle w0.6: c-12.75,12.75 r0.3
  circle w0.25: c-15.15,13.45 r0.125
  lines w0.2: -13.75,-13.75 13.75,-13.75 13.75,13.75 -13.75,13.75 -13.75,-13.75
Mechanical 13:
  circle w0.1: c-13.1,13.1 r0.5
  lines w0.1: -14,-14 14,-14 14,14 -14,14 -14,-14
Mechanical 15:
  lines w0.1: -0.5,0 0.5,0 ; 0,-0.5 0,0.5 ; -16.35,-16.35 16.35,-16.35 16.35,16.35 -16.35,16.35 -16.35,-16.35
3D body: height 3.9, standoff 0, extent -14,-14 14,14

## MQFP208_L [mm] "208-Pin Shrink Quad Flat Pack 0.5 mm Pitch, IPC High Density"
height 3.99
pads (208):
  oval 1.55x0.25 smd: 1(-14.825,12.75) 2(-14.825,12.25) 3(-14.825,11.75) 4(-14.825,11.25) 5(-14.825,10.75) 6(-14.825,10.25) 7(-14.825,9.75) 8(-14.825,9.25) 9(-14.825,8.75) 10(-14.825,8.25) 11(-14.825,7.75) 12(-14.825,7.25) 13(-14.825,6.75) 14(-14.825,6.25) 15(-14.825,5.75) 16(-14.825,5.25) 17(-14.825,4.75) 18(-14.825,4.25) 19(-14.825,3.75) 20(-14.825,3.25) 21(-14.825,2.75) 22(-14.825,2.25) 23(-14.825,1.75) 24(-14.825,1.25) 25(-14.825,0.75) 26(-14.825,0.25) 27(-14.825,-0.25) 28(-14.825,-0.75) 29(-14.825,-1.25) 30(-14.825,-1.75) 31(-14.825,-2.25) 32(-14.825,-2.75) 33(-14.825,-3.25) 34(-14.825,-3.75) 35(-14.825,-4.25) 36(-14.825,-4.75) 37(-14.825,-5.25) 38(-14.825,-5.75) 39(-14.825,-6.25) 40(-14.825,-6.75) 41(-14.825,-7.25) 42(-14.825,-7.75) 43(-14.825,-8.25) 44(-14.825,-8.75) 45(-14.825,-9.25) 46(-14.825,-9.75) 47(-14.825,-10.25) 48(-14.825,-10.75) 49(-14.825,-11.25) 50(-14.825,-11.75) 51(-14.825,-12.25) 52(-14.825,-12.75) 105(14.825,-12.75) 106(14.825,-12.25) 107(14.825,-11.75) 108(14.825,-11.25) 109(14.825,-10.75) 110(14.825,-10.25) 111(14.825,-9.75) 112(14.825,-9.25) 113(14.825,-8.75) 114(14.825,-8.25) 115(14.825,-7.75) 116(14.825,-7.25) 117(14.825,-6.75) 118(14.825,-6.25) 119(14.825,-5.75) 120(14.825,-5.25) 121(14.825,-4.75) 122(14.825,-4.25) 123(14.825,-3.75) 124(14.825,-3.25) 125(14.825,-2.75) 126(14.825,-2.25) 127(14.825,-1.75) 128(14.825,-1.25) 129(14.825,-0.75) 130(14.825,-0.25) 131(14.825,0.25) 132(14.825,0.75) 133(14.825,1.25) 134(14.825,1.75) 135(14.825,2.25) 136(14.825,2.75) 137(14.825,3.25) 138(14.825,3.75) 139(14.825,4.25) 140(14.825,4.75) 141(14.825,5.25) 142(14.825,5.75) 143(14.825,6.25) 144(14.825,6.75) 145(14.825,7.25) 146(14.825,7.75) 147(14.825,8.25) 148(14.825,8.75) 149(14.825,9.25) 150(14.825,9.75) 151(14.825,10.25) 152(14.825,10.75) 153(14.825,11.25) 154(14.825,11.75) 155(14.825,12.25) 156(14.825,12.75)
  oval 0.25x1.55 smd: 53(-12.75,-14.825) 54(-12.25,-14.825) 55(-11.75,-14.825) 56(-11.25,-14.825) 57(-10.75,-14.825) 58(-10.25,-14.825) 59(-9.75,-14.825) 60(-9.25,-14.825) 61(-8.75,-14.825) 62(-8.25,-14.825) 63(-7.75,-14.825) 64(-7.25,-14.825) 65(-6.75,-14.825) 66(-6.25,-14.825) 67(-5.75,-14.825) 68(-5.25,-14.825) 69(-4.75,-14.825) 70(-4.25,-14.825) 71(-3.75,-14.825) 72(-3.25,-14.825) 73(-2.75,-14.825) 74(-2.25,-14.825) 75(-1.75,-14.825) 76(-1.25,-14.825) 77(-0.75,-14.825) 78(-0.25,-14.825) 79(0.25,-14.825) 80(0.75,-14.825) 81(1.25,-14.825) 82(1.75,-14.825) 83(2.25,-14.825) 84(2.75,-14.825) 85(3.25,-14.825) 86(3.75,-14.825) 87(4.25,-14.825) 88(4.75,-14.825) 89(5.25,-14.825) 90(5.75,-14.825) 91(6.25,-14.825) 92(6.75,-14.825) 93(7.25,-14.825) 94(7.75,-14.825) 95(8.25,-14.825) 96(8.75,-14.825) 97(9.25,-14.825) 98(9.75,-14.825) 99(10.25,-14.825) 100(10.75,-14.825) 101(11.25,-14.825) 102(11.75,-14.825) 103(12.25,-14.825) 104(12.75,-14.825) 157(12.75,14.825) 158(12.25,14.825) 159(11.75,14.825) 160(11.25,14.825) 161(10.75,14.825) 162(10.25,14.825) 163(9.75,14.825) 164(9.25,14.825) 165(8.75,14.825) 166(8.25,14.825) 167(7.75,14.825) 168(7.25,14.825) 169(6.75,14.825) 170(6.25,14.825) 171(5.75,14.825) 172(5.25,14.825) 173(4.75,14.825) 174(4.25,14.825) 175(3.75,14.825) 176(3.25,14.825) 177(2.75,14.825) 178(2.25,14.825) 179(1.75,14.825) 180(1.25,14.825) 181(0.75,14.825) 182(0.25,14.825) 183(-0.25,14.825) 184(-0.75,14.825) 185(-1.25,14.825) 186(-1.75,14.825) 187(-2.25,14.825) 188(-2.75,14.825) 189(-3.25,14.825) 190(-3.75,14.825) 191(-4.25,14.825) 192(-4.75,14.825) 193(-5.25,14.825) 194(-5.75,14.825) 195(-6.25,14.825) 196(-6.75,14.825) 197(-7.25,14.825) 198(-7.75,14.825) 199(-8.25,14.825) 200(-8.75,14.825) 201(-9.25,14.825) 202(-9.75,14.825) 203(-10.25,14.825) 204(-10.75,14.825) 205(-11.25,14.825) 206(-11.75,14.825) 207(-12.25,14.825) 208(-12.75,14.825)
Top Overlay:
  circle w0.6: c-12.65,12.65 r0.3
  circle w0.25: c-14.825,13.425 r0.125
  lines w0.2: -13.65,-13.65 13.65,-13.65 13.65,13.65 -13.65,13.65 -13.65,-13.65
Mechanical 13:
  circle w0.1: c-13.1,13.1 r0.5
  lines w0.1: -14,-14 14,-14 14,14 -14,14 -14,-14
Mechanical 15:
  lines w0.1: -0.5,0 0.5,0 ; 0,-0.5 0,0.5 ; -15.7,-15.7 15.7,-15.7 15.7,15.7 -15.7,15.7 -15.7,-15.7
3D body: height 3.99, standoff 0, extent -14,-14 14,14

## MQFP208_M [mm] "208-Pin Shrink Quad Flat Pack 0.5 mm Pitch, IPC Low Density"
height 3.99
pads (208):
  oval 2.1x0.3 smd: 1(-14.9,12.75) 2(-14.9,12.25) 3(-14.9,11.75) 4(-14.9,11.25) 5(-14.9,10.75) 6(-14.9,10.25) 7(-14.9,9.75) 8(-14.9,9.25) 9(-14.9,8.75) 10(-14.9,8.25) 11(-14.9,7.75) 12(-14.9,7.25) 13(-14.9,6.75) 14(-14.9,6.25) 15(-14.9,5.75) 16(-14.9,5.25) 17(-14.9,4.75) 18(-14.9,4.25) 19(-14.9,3.75) 20(-14.9,3.25) 21(-14.9,2.75) 22(-14.9,2.25) 23(-14.9,1.75) 24(-14.9,1.25) 25(-14.9,0.75) 26(-14.9,0.25) 27(-14.9,-0.25) 28(-14.9,-0.75) 29(-14.9,-1.25) 30(-14.9,-1.75) 31(-14.9,-2.25) 32(-14.9,-2.75) 33(-14.9,-3.25) 34(-14.9,-3.75) 35(-14.9,-4.25) 36(-14.9,-4.75) 37(-14.9,-5.25) 38(-14.9,-5.75) 39(-14.9,-6.25) 40(-14.9,-6.75) 41(-14.9,-7.25) 42(-14.9,-7.75) 43(-14.9,-8.25) 44(-14.9,-8.75) 45(-14.9,-9.25) 46(-14.9,-9.75) 47(-14.9,-10.25) 48(-14.9,-10.75) 49(-14.9,-11.25) 50(-14.9,-11.75) 51(-14.9,-12.25) 52(-14.9,-12.75) 105(14.9,-12.75) 106(14.9,-12.25) 107(14.9,-11.75) 108(14.9,-11.25) 109(14.9,-10.75) 110(14.9,-10.25) 111(14.9,-9.75) 112(14.9,-9.25) 113(14.9,-8.75) 114(14.9,-8.25) 115(14.9,-7.75) 116(14.9,-7.25) 117(14.9,-6.75) 118(14.9,-6.25) 119(14.9,-5.75) 120(14.9,-5.25) 121(14.9,-4.75) 122(14.9,-4.25) 123(14.9,-3.75) 124(14.9,-3.25) 125(14.9,-2.75) 126(14.9,-2.25) 127(14.9,-1.75) 128(14.9,-1.25) 129(14.9,-0.75) 130(14.9,-0.25) 131(14.9,0.25) 132(14.9,0.75) 133(14.9,1.25) 134(14.9,1.75) 135(14.9,2.25) 136(14.9,2.75) 137(14.9,3.25) 138(14.9,3.75) 139(14.9,4.25) 140(14.9,4.75) 141(14.9,5.25) 142(14.9,5.75) 143(14.9,6.25) 144(14.9,6.75) 145(14.9,7.25) 146(14.9,7.75) 147(14.9,8.25) 148(14.9,8.75) 149(14.9,9.25) 150(14.9,9.75) 151(14.9,10.25) 152(14.9,10.75) 153(14.9,11.25) 154(14.9,11.75) 155(14.9,12.25) 156(14.9,12.75)
  oval 0.3x2.1 smd: 53(-12.75,-14.9) 54(-12.25,-14.9) 55(-11.75,-14.9) 56(-11.25,-14.9) 57(-10.75,-14.9) 58(-10.25,-14.9) 59(-9.75,-14.9) 60(-9.25,-14.9) 61(-8.75,-14.9) 62(-8.25,-14.9) 63(-7.75,-14.9) 64(-7.25,-14.9) 65(-6.75,-14.9) 66(-6.25,-14.9) 67(-5.75,-14.9) 68(-5.25,-14.9) 69(-4.75,-14.9) 70(-4.25,-14.9) 71(-3.75,-14.9) 72(-3.25,-14.9) 73(-2.75,-14.9) 74(-2.25,-14.9) 75(-1.75,-14.9) 76(-1.25,-14.9) 77(-0.75,-14.9) 78(-0.25,-14.9) 79(0.25,-14.9) 80(0.75,-14.9) 81(1.25,-14.9) 82(1.75,-14.9) 83(2.25,-14.9) 84(2.75,-14.9) 85(3.25,-14.9) 86(3.75,-14.9) 87(4.25,-14.9) 88(4.75,-14.9) 89(5.25,-14.9) 90(5.75,-14.9) 91(6.25,-14.9) 92(6.75,-14.9) 93(7.25,-14.9) 94(7.75,-14.9) 95(8.25,-14.9) 96(8.75,-14.9) 97(9.25,-14.9) 98(9.75,-14.9) 99(10.25,-14.9) 100(10.75,-14.9) 101(11.25,-14.9) 102(11.75,-14.9) 103(12.25,-14.9) 104(12.75,-14.9) 157(12.75,14.9) 158(12.25,14.9) 159(11.75,14.9) 160(11.25,14.9) 161(10.75,14.9) 162(10.25,14.9) 163(9.75,14.9) 164(9.25,14.9) 165(8.75,14.9) 166(8.25,14.9) 167(7.75,14.9) 168(7.25,14.9) 169(6.75,14.9) 170(6.25,14.9) 171(5.75,14.9) 172(5.25,14.9) 173(4.75,14.9) 174(4.25,14.9) 175(3.75,14.9) 176(3.25,14.9) 177(2.75,14.9) 178(2.25,14.9) 179(1.75,14.9) 180(1.25,14.9) 181(0.75,14.9) 182(0.25,14.9) 183(-0.25,14.9) 184(-0.75,14.9) 185(-1.25,14.9) 186(-1.75,14.9) 187(-2.25,14.9) 188(-2.75,14.9) 189(-3.25,14.9) 190(-3.75,14.9) 191(-4.25,14.9) 192(-4.75,14.9) 193(-5.25,14.9) 194(-5.75,14.9) 195(-6.25,14.9) 196(-6.75,14.9) 197(-7.25,14.9) 198(-7.75,14.9) 199(-8.25,14.9) 200(-8.75,14.9) 201(-9.25,14.9) 202(-9.75,14.9) 203(-10.25,14.9) 204(-10.75,14.9) 205(-11.25,14.9) 206(-11.75,14.9) 207(-12.25,14.9) 208(-12.75,14.9)
Top Overlay:
  circle w0.6: c-12.45,12.45 r0.3
  circle w0.25: c-14.9,13.45 r0.125
  lines w0.2: -13.45,-13.45 13.45,-13.45 13.45,13.45 -13.45,13.45 -13.45,-13.45
Mechanical 13:
  circle w0.1: c-13.1,13.1 r0.5
  lines w0.1: -14,-14 14,-14 14,14 -14,14 -14,-14
Mechanical 15:
  lines w0.1: -0.5,0 0.5,0 ; 0,-0.5 0,0.5 ; -16.45,-16.45 16.45,-16.45 16.45,16.45 -16.45,16.45 -16.45,-16.45
3D body: height 3.99, standoff 0, extent -14,-14 14,14

## MQFP208_N [mm] "208-Pin Shrink Quad Flat Pack 0.5 mm Pitch, IPC Medium Density"
height 3.99
pads (208):
  oval 1.8x0.3 smd: 1(-14.85,12.75) 2(-14.85,12.25) 3(-14.85,11.75) 4(-14.85,11.25) 5(-14.85,10.75) 6(-14.85,10.25) 7(-14.85,9.75) 8(-14.85,9.25) 9(-14.85,8.75) 10(-14.85,8.25) 11(-14.85,7.75) 12(-14.85,7.25) 13(-14.85,6.75) 14(-14.85,6.25) 15(-14.85,5.75) 16(-14.85,5.25) 17(-14.85,4.75) 18(-14.85,4.25) 19(-14.85,3.75) 20(-14.85,3.25) 21(-14.85,2.75) 22(-14.85,2.25) 23(-14.85,1.75) 24(-14.85,1.25) 25(-14.85,0.75) 26(-14.85,0.25) 27(-14.85,-0.25) 28(-14.85,-0.75) 29(-14.85,-1.25) 30(-14.85,-1.75) 31(-14.85,-2.25) 32(-14.85,-2.75) 33(-14.85,-3.25) 34(-14.85,-3.75) 35(-14.85,-4.25) 36(-14.85,-4.75) 37(-14.85,-5.25) 38(-14.85,-5.75) 39(-14.85,-6.25) 40(-14.85,-6.75) 41(-14.85,-7.25) 42(-14.85,-7.75) 43(-14.85,-8.25) 44(-14.85,-8.75) 45(-14.85,-9.25) 46(-14.85,-9.75) 47(-14.85,-10.25) 48(-14.85,-10.75) 49(-14.85,-11.25) 50(-14.85,-11.75) 51(-14.85,-12.25) 52(-14.85,-12.75) 105(14.85,-12.75) 106(14.85,-12.25) 107(14.85,-11.75) 108(14.85,-11.25) 109(14.85,-10.75) 110(14.85,-10.25) 111(14.85,-9.75) 112(14.85,-9.25) 113(14.85,-8.75) 114(14.85,-8.25) 115(14.85,-7.75) 116(14.85,-7.25) 117(14.85,-6.75) 118(14.85,-6.25) 119(14.85,-5.75) 120(14.85,-5.25) 121(14.85,-4.75) 122(14.85,-4.25) 123(14.85,-3.75) 124(14.85,-3.25) 125(14.85,-2.75) 126(14.85,-2.25) 127(14.85,-1.75) 128(14.85,-1.25) 129(14.85,-0.75) 130(14.85,-0.25) 131(14.85,0.25) 132(14.85,0.75) 133(14.85,1.25) 134(14.85,1.75) 135(14.85,2.25) 136(14.85,2.75) 137(14.85,3.25) 138(14.85,3.75) 139(14.85,4.25) 140(14.85,4.75) 141(14.85,5.25) 142(14.85,5.75) 143(14.85,6.25) 144(14.85,6.75) 145(14.85,7.25) 146(14.85,7.75) 147(14.85,8.25) 148(14.85,8.75) 149(14.85,9.25) 150(14.85,9.75) 151(14.85,10.25) 152(14.85,10.75) 153(14.85,11.25) 154(14.85,11.75) 155(14.85,12.25) 156(14.85,12.75)
  oval 0.3x1.8 smd: 53(-12.75,-14.85) 54(-12.25,-14.85) 55(-11.75,-14.85) 56(-11.25,-14.85) 57(-10.75,-14.85) 58(-10.25,-14.85) 59(-9.75,-14.85) 60(-9.25,-14.85) 61(-8.75,-14.85) 62(-8.25,-14.85) 63(-7.75,-14.85) 64(-7.25,-14.85) 65(-6.75,-14.85) 66(-6.25,-14.85) 67(-5.75,-14.85) 68(-5.25,-14.85) 69(-4.75,-14.85) 70(-4.25,-14.85) 71(-3.75,-14.85) 72(-3.25,-14.85) 73(-2.75,-14.85) 74(-2.25,-14.85) 75(-1.75,-14.85) 76(-1.25,-14.85) 77(-0.75,-14.85) 78(-0.25,-14.85) 79(0.25,-14.85) 80(0.75,-14.85) 81(1.25,-14.85) 82(1.75,-14.85) 83(2.25,-14.85) 84(2.75,-14.85) 85(3.25,-14.85) 86(3.75,-14.85) 87(4.25,-14.85) 88(4.75,-14.85) 89(5.25,-14.85) 90(5.75,-14.85) 91(6.25,-14.85) 92(6.75,-14.85) 93(7.25,-14.85) 94(7.75,-14.85) 95(8.25,-14.85) 96(8.75,-14.85) 97(9.25,-14.85) 98(9.75,-14.85) 99(10.25,-14.85) 100(10.75,-14.85) 101(11.25,-14.85) 102(11.75,-14.85) 103(12.25,-14.85) 104(12.75,-14.85) 157(12.75,14.85) 158(12.25,14.85) 159(11.75,14.85) 160(11.25,14.85) 161(10.75,14.85) 162(10.25,14.85) 163(9.75,14.85) 164(9.25,14.85) 165(8.75,14.85) 166(8.25,14.85) 167(7.75,14.85) 168(7.25,14.85) 169(6.75,14.85) 170(6.25,14.85) 171(5.75,14.85) 172(5.25,14.85) 173(4.75,14.85) 174(4.25,14.85) 175(3.75,14.85) 176(3.25,14.85) 177(2.75,14.85) 178(2.25,14.85) 179(1.75,14.85) 180(1.25,14.85) 181(0.75,14.85) 182(0.25,14.85) 183(-0.25,14.85) 184(-0.75,14.85) 185(-1.25,14.85) 186(-1.75,14.85) 187(-2.25,14.85) 188(-2.75,14.85) 189(-3.25,14.85) 190(-3.75,14.85) 191(-4.25,14.85) 192(-4.75,14.85) 193(-5.25,14.85) 194(-5.75,14.85) 195(-6.25,14.85) 196(-6.75,14.85) 197(-7.25,14.85) 198(-7.75,14.85) 199(-8.25,14.85) 200(-8.75,14.85) 201(-9.25,14.85) 202(-9.75,14.85) 203(-10.25,14.85) 204(-10.75,14.85) 205(-11.25,14.85) 206(-11.75,14.85) 207(-12.25,14.85) 208(-12.75,14.85)
Top Overlay:
  circle w0.6: c-12.55,12.55 r0.3
  circle w0.25: c-14.85,13.45 r0.125
  lines w0.2: -13.55,-13.55 13.55,-13.55 13.55,13.55 -13.55,13.55 -13.55,-13.55
Mechanical 13:
  circle w0.1: c-13.1,13.1 r0.5
  lines w0.1: -14,-14 14,-14 14,14 -14,14 -14,-14
Mechanical 15:
  lines w0.1: -0.5,0 0.5,0 ; 0,-0.5 0,0.5 ; -16,-16 16,-16 16,16 -16,16 -16,-16
3D body: height 3.99, standoff 0, extent -14,-14 14,14

## MQFP240_L [mm] "240-Pin Shrink Quad Flat Pack 0.5 mm Pitch, IPC High Density"
height 4.15
pads (240):
  oval 1.55x0.25 smd: 1(-16.825,14.75) 2(-16.825,14.25) 3(-16.825,13.75) 4(-16.825,13.25) 5(-16.825,12.75) 6(-16.825,12.25) 7(-16.825,11.75) 8(-16.825,11.25) 9(-16.825,10.75) 10(-16.825,10.25) 11(-16.825,9.75) 12(-16.825,9.25) 13(-16.825,8.75) 14(-16.825,8.25) 15(-16.825,7.75) 16(-16.825,7.25) 17(-16.825,6.75) 18(-16.825,6.25) 19(-16.825,5.75) 20(-16.825,5.25) 21(-16.825,4.75) 22(-16.825,4.25) 23(-16.825,3.75) 24(-16.825,3.25) 25(-16.825,2.75) 26(-16.825,2.25) 27(-16.825,1.75) 28(-16.825,1.25) 29(-16.825,0.75) 30(-16.825,0.25) 31(-16.825,-0.25) 32(-16.825,-0.75) 33(-16.825,-1.25) 34(-16.825,-1.75) 35(-16.825,-2.25) 36(-16.825,-2.75) 37(-16.825,-3.25) 38(-16.825,-3.75) 39(-16.825,-4.25) 40(-16.825,-4.75) 41(-16.825,-5.25) 42(-16.825,-5.75) 43(-16.825,-6.25) 44(-16.825,-6.75) 45(-16.825,-7.25) 46(-16.825,-7.75) 47(-16.825,-8.25) 48(-16.825,-8.75) 49(-16.825,-9.25) 50(-16.825,-9.75) 51(-16.825,-10.25) 52(-16.825,-10.75) 53(-16.825,-11.25) 54(-16.825,-11.75) 55(-16.825,-12.25) 56(-16.825,-12.75) 57(-16.825,-13.25) 58(-16.825,-13.75) 59(-16.825,-14.25) 60(-16.825,-14.75) 121(16.825,-14.75) 122(16.825,-14.25) 123(16.825,-13.75) 124(16.825,-13.25) 125(16.825,-12.75) 126(16.825,-12.25) 127(16.825,-11.75) 128(16.825,-11.25) 129(16.825,-10.75) 130(16.825,-10.25) 131(16.825,-9.75) 132(16.825,-9.25) 133(16.825,-8.75) 134(16.825,-8.25) 135(16.825,-7.75) 136(16.825,-7.25) 137(16.825,-6.75) 138(16.825,-6.25) 139(16.825,-5.75) 140(16.825,-5.25) 141(16.825,-4.75) 142(16.825,-4.25) 143(16.825,-3.75) 144(16.825,-3.25) 145(16.825,-2.75) 146(16.825,-2.25) 147(16.825,-1.75) 148(16.825,-1.25) 149(16.825,-0.75) 150(16.825,-0.25) 151(16.825,0.25) 152(16.825,0.75) 153(16.825,1.25) 154(16.825,1.75) 155(16.825,2.25) 156(16.825,2.75) 157(16.825,3.25) 158(16.825,3.75) 159(16.825,4.25) 160(16.825,4.75) 161(16.825,5.25) 162(16.825,5.75) 163(16.825,6.25) 164(16.825,6.75) 165(16.825,7.25) 166(16.825,7.75) 167(16.825,8.25) 168(16.825,8.75) 169(16.825,9.25) 170(16.825,9.75) 171(16.825,10.25) 172(16.825,10.75) 173(16.825,11.25) 174(16.825,11.75) 175(16.825,12.25) 176(16.825,12.75) 177(16.825,13.25) 178(16.825,13.75) 179(16.825,14.25) 180(16.825,14.75)
  oval 0.25x1.55 smd: 61(-14.75,-16.825) 62(-14.25,-16.825) 63(-13.75,-16.825) 64(-13.25,-16.825) 65(-12.75,-16.825) 66(-12.25,-16.825) 67(-11.75,-16.825) 68(-11.25,-16.825) 69(-10.75,-16.825) 70(-10.25,-16.825) 71(-9.75,-16.825) 72(-9.25,-16.825) 73(-8.75,-16.825) 74(-8.25,-16.825) 75(-7.75,-16.825) 76(-7.25,-16.825) 77(-6.75,-16.825) 78(-6.25,-16.825) 79(-5.75,-16.825) 80(-5.25,-16.825) 81(-4.75,-16.825) 82(-4.25,-16.825) 83(-3.75,-16.825) 84(-3.25,-16.825) 85(-2.75,-16.825) 86(-2.25,-16.825) 87(-1.75,-16.825) 88(-1.25,-16.825) 89(-0.75,-16.825) 90(-0.25,-16.825) 91(0.25,-16.825) 92(0.75,-16.825) 93(1.25,-16.825) 94(1.75,-16.825) 95(2.25,-16.825) 96(2.75,-16.825) 97(3.25,-16.825) 98(3.75,-16.825) 99(4.25,-16.825) 100(4.75,-16.825) 101(5.25,-16.825) 102(5.75,-16.825) 103(6.25,-16.825) 104(6.75,-16.825) 105(7.25,-16.825) 106(7.75,-16.825) 107(8.25,-16.825) 108(8.75,-16.825) 109(9.25,-16.825) 110(9.75,-16.825) 111(10.25,-16.825) 112(10.75,-16.825) 113(11.25,-16.825) 114(11.75,-16.825) 115(12.25,-16.825) 116(12.75,-16.825) 117(13.25,-16.825) 118(13.75,-16.825) 119(14.25,-16.825) 120(14.75,-16.825) 181(14.75,16.825) 182(14.25,16.825) 183(13.75,16.825) 184(13.25,16.825) 185(12.75,16.825) 186(12.25,16.825) 187(11.75,16.825) 188(11.25,16.825) 189(10.75,16.825) 190(10.25,16.825) 191(9.75,16.825) 192(9.25,16.825) 193(8.75,16.825) 194(8.25,16.825) 195(7.75,16.825) 196(7.25,16.825) 197(6.75,16.825) 198(6.25,16.825) 199(5.75,16.825) 200(5.25,16.825) 201(4.75,16.825) 202(4.25,16.825) 203(3.75,16.825) 204(3.25,16.825) 205(2.75,16.825) 206(2.25,16.825) 207(1.75,16.825) 208(1.25,16.825) 209(0.75,16.825) 210(0.25,16.825) 211(-0.25,16.825) 212(-0.75,16.825) 213(-1.25,16.825) 214(-1.75,16.825) 215(-2.25,16.825) 216(-2.75,16.825) 217(-3.25,16.825) 218(-3.75,16.825) 219(-4.25,16.825) 220(-4.75,16.825) 221(-5.25,16.825) 222(-5.75,16.825) 223(-6.25,16.825) 224(-6.75,16.825) 225(-7.25,16.825) 226(-7.75,16.825) 227(-8.25,16.825) 228(-8.75,16.825) 229(-9.25,16.825) 230(-9.75,16.825) 231(-10.25,16.825) 232(-10.75,16.825) 233(-11.25,16.825) 234(-11.75,16.825) 235(-12.25,16.825) 236(-12.75,16.825) 237(-13.25,16.825) 238(-13.75,16.825) 239(-14.25,16.825) 240(-14.75,16.825)
Top Overlay:
  circle w0.6: c-14.65,14.65 r0.3
  circle w0.25: c-16.825,15.425 r0.125
  lines w0.2: -15.65,-15.65 15.65,-15.65 15.65,15.65 -15.65,15.65 -15.65,-15.65
Mechanical 13:
  circle w0.1: c-15.1,15.1 r0.5
  lines w0.1: -16,-16 16,-16 16,16 -16,16 -16,-16
Mechanical 15:
  lines w0.1: -0.5,0 0.5,0 ; 0,-0.5 0,0.5 ; -17.7,-17.7 17.7,-17.7 17.7,17.7 -17.7,17.7 -17.7,-17.7
3D body: height 4.15, standoff 0, extent -16,-16 16,16